# Altium schematic symbol library Schlib1.SchLib: 6 symbols
Pins are listed as number, name and electrical type; pins without a type are passive.

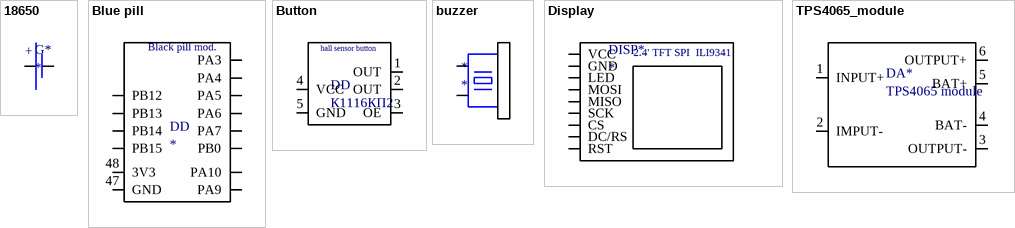
[diagram p0: symbols 18650 to TPS4065_module]

## 18650
designator G*
pins: 3, 4
text: +

## Blue pill
designator DD
pins: 47 GND, 47 PB13, 47 PB15, 47 PA5, 47 PA7, 47 PA3, 47 PA4, 48 3V3, 48 PB12, 48 PB14, 48 PA6, 48 PB0, 48 PA10, 48 PA9
text: Black pill mod.

## Button
designator DD, comment К1116КП2
pins: 1 OUT, 2 OUT, 3 OE, 4 VCC, 5 GND
text: hall sensor button

## buzzer
designator *
pins: 1 19, 2

## Display
designator DISP*
pins: 5 VCC, 6 GND, 7 CS, 8 MOSI, 9 SCK, 10 RST, 11 LED, 12 MISO, 13 DC/RS
text: 2.4' TFT SPI  ILI9341

## TPS4065_module
designator DA*, comment TPS4065 module
pins: 1 INPUT+, 2 IMPUT-, 3 OUTPUT-, 4 BAT-, 5 BAT+, 6 OUTPUT+